# Altium footprint library optocoupler.PCBLIB: 38 footprints (part 2 of 3)
Each footprint in its own frame and in the unit in brackets; x right, y up, seen from the top. Pads: shape width x height; smd on the part's side, far side on the other; paste and mask are expansions set on the pad; w line width, h text height; cw(c..) or ccw(c..) is an arc to the next point about the centre after c.
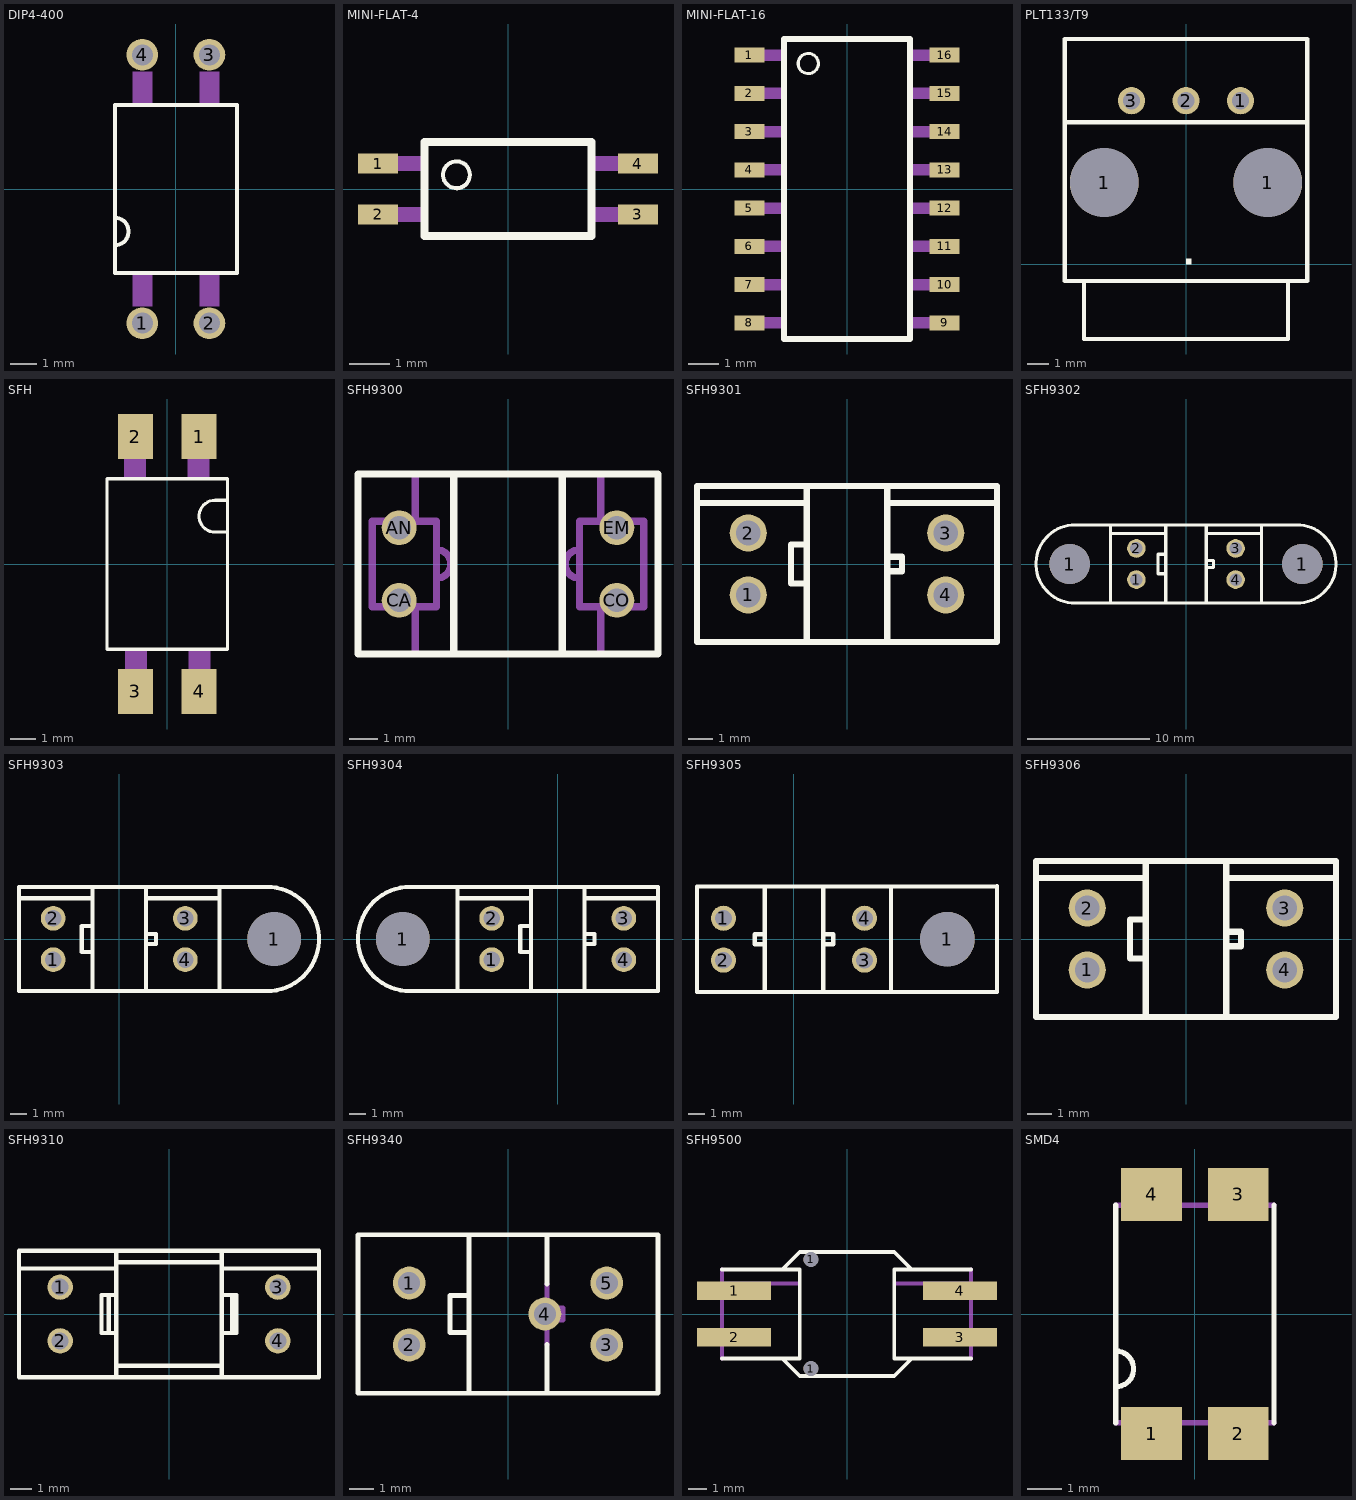
[diagram p1: the footprints below, top view; thin cyan lines are the x and y axes]

## DIP4-400 [mil]
pads (4):
  round 47.25 hole 31.5: 1(-50,-200) 2(50,-200) 3(50,200) 4(-50,200)
Top Overlay:
  lines w6: -91.14,-83.86 ccw(c-91.14,-63.29) -91.14,-42.72 ; -91.14,-83.86 -91.14,-42.72 ; -91.14,-83.86 -91.14,-125.2 91.14,-125.2 91.14,125.2 -91.14,125.2 -91.14,-42.72
Mechanical 4:
  region: -35,175 -65,175 -65,125.98 -35,125.98
  region: 65,175 35,175 35,125.98 65,125.98
  rectangle: 35,-175 65,-125.98
  rectangle: -65,-175 -35,-125.98

## MINI-FLAT-4 [mm]
pads (4):
  rect 1x0.5 smd: 1(-3.24,0.635) 2(-3.24,-0.635) 3(3.24,-0.635) 4(3.24,0.635)
Top Overlay:
  circle w0.102: c-1.285,0.354 r0.335
  lines w0.203: -2.085,-1.168 -2.085,1.168 2.085,1.168 2.085,-1.168 -2.085,-1.168
Mechanical 4:
  region: 3.471,0.826 2.15,0.826 2.15,0.445 3.471,0.444
  region: 3.471,-0.445 2.15,-0.444 2.15,-0.826 3.471,-0.826
  rectangle: -3.471,-0.826 -2.15,-0.445
  rectangle: -3.471,0.445 -2.15,0.826

## MINI-FLAT-16 [mm]
pads (16):
  rect 1x0.5 smd: 1(-3.24,4.445) 2(-3.24,3.175) 3(-3.24,1.905) 4(-3.24,0.635) 5(-3.24,-0.635) 6(-3.24,-1.905) 7(-3.24,-3.175) 8(-3.24,-4.445) 9(3.24,-4.445) 10(3.24,-3.175) 11(3.24,-1.905) 12(3.24,-0.635) 13(3.24,0.635) 14(3.24,1.905) 15(3.24,3.175) 16(3.24,4.445)
Top Overlay:
  circle w0.102: c-1.285,4.164 r0.335
  lines w0.203: -2.085,-4.978 -2.085,4.978 2.085,4.978 2.085,-4.978 -2.085,-4.978
Mechanical 4:
  rectangle: 2.15,4.255 3.471,4.635
  rectangle: 2.15,2.984 3.471,3.365
  rectangle: 2.15,1.714 3.471,2.095
  rectangle: 2.15,0.445 3.471,0.826
  region: 3.471,-0.445 2.15,-0.444 2.15,-0.826 3.471,-0.826
  region: 3.471,-1.714 2.15,-1.714 2.15,-2.095 3.471,-2.095
  region: 3.471,-2.984 2.15,-2.984 2.15,-3.365 3.471,-3.365
  region: 3.471,-4.255 2.15,-4.255 2.15,-4.635 3.471,-4.635
  region: -2.15,-4.255 -3.471,-4.255 -3.471,-4.635 -2.15,-4.635
  region: -2.15,-2.984 -3.471,-2.984 -3.471,-3.365 -2.15,-3.365
  region: -2.15,-1.714 -3.471,-1.714 -3.471,-2.095 -2.15,-2.095
  region: -2.15,-0.445 -3.471,-0.444 -3.471,-0.826 -2.15,-0.826
  rectangle: -3.471,0.445 -2.15,0.826
  rectangle: -3.471,1.714 -2.15,2.095
  rectangle: -3.471,2.984 -2.15,3.365
  rectangle: -3.471,4.255 -2.15,4.635

## PLT133/T9 [mil]
pads (5):
  round 125.98 hole 125.98: 1(-150,150) 1(150,150)
  round 50 hole 31.5: 1(100,300) 2(0,300) 3(-100,300)
Top Overlay:
  region: 0,0 10,0 10,10 0,10
  lines w8: -187.01,-34.65 -187.01,-137.01 187.01,-137.01 187.01,-34.65 ; -222.44,260.63 222.44,260.63 ; -222.44,260.63 -222.44,413.19 222.44,413.19 222.44,260.63 ; -222.44,260.63 -222.44,-30.71 222.44,-30.71 222.44,260.63

## SFH [mil]
pads (4):
  rect 55.12x70.87 smd: 1(50,200) 2(-50,200) 3(-50,-200) 4(50,-200)
Top Overlay:
  lines w5: 92.13,50 75,50 cw(c75,75) 75,100 92.13,100 ; -94.49,-133.86 -94.49,133.86 94.49,133.86 94.49,-133.86 -94.49,-133.86
Mechanical 4:
  region: 67.91,-136.81 33.46,-136.81 33.46,-221.46 67.91,-221.46
  region: -32.09,-136.81 -66.54,-136.81 -66.54,-221.46 -32.09,-221.46
  rectangle: 32.09,136.81 66.54,221.46
  rectangle: -67.91,136.81 -33.46,221.46

## SFH9300 [mil]
pads (4):
  round 48 hole 32: AN(-150,50) CA(-150,-50) CO(150,-50) EM(150,50)
Top Overlay:
  lines w10: -74.8,-122.05 -74.8,120.08 ; 74.8,-122.05 74.8,122.05 ; -206.69,-124.02 206.69,-124.02 206.69,124.02 -206.69,124.02 -206.69,-124.02
Mechanical 4:
  lines w10: -127.95,-118.11 -127.95,-59.06 ; -127.95,118.11 -127.95,59.06 ; -98.43,-19.69 ccw(c-98.43,0) -98.43,19.69 ; 98.43,-19.69 cw(c98.43,0) 98.43,19.69 ; 127.95,-118.11 127.95,-59.06 ; 127.95,118.11 127.95,59.06 ; -127.95,-59.06 -98.43,-59.06 -98.43,59.06 -127.95,59.06 ; -127.95,-59.06 -187.01,-59.06 -187.01,59.06 -127.95,59.06 ; 127.95,-59.06 98.43,-59.06 98.43,59.06 127.95,59.06 ; 127.95,-59.06 187.01,-59.06 187.01,59.06 127.95,59.06

## SFH9301 [mil]
pads (4):
  round 60 hole 40: 1(-159.45,-50) 2(-159.45,50) 3(159.45,50) 4(159.45,-50)
Top Overlay:
  lines w10: -238.19,98.43 -68.9,98.43 ; -70.87,31.5 -90.55,31.5 -90.55,-31.5 -68.9,-31.5 ; -64.96,-122.05 -64.96,122.05 ; 64.96,-122.05 64.96,122.05 ; 68.9,-11.81 88.58,-11.81 88.58,11.81 68.9,11.81 ; 68.9,98.43 238.19,98.43 ; -242.13,-125.98 242.13,-125.98 242.13,125.98 -242.13,125.98 -242.13,-125.98

## SFH9302 [mil]
pads (6):
  round 129.92 hole 129.92: 1(-374.02,0) 1(374.02,0)
  round 60 hole 40: 1(-159.45,-50) 2(-159.45,50) 3(159.45,50) 4(159.45,-50)
Top Overlay:
  lines w10: -238.19,98.43 -68.9,98.43 ; -70.87,31.5 -90.55,31.5 -90.55,-31.5 -68.9,-31.5 ; -64.96,-122.05 -64.96,122.05 ; 64.96,-122.05 64.96,122.05 ; 68.9,-11.81 88.58,-11.81 88.58,11.81 68.9,11.81 ; 68.9,98.43 238.19,98.43 ; -242.13,-125.98 -356.3,-125.98 cw(c-356.3,0) -356.3,125.98 -242.13,125.98 ; -242.13,-125.98 242.13,-125.98 ; -242.13,-125.98 -242.13,125.98 ; -242.13,125.98 242.13,125.98 ; 242.13,-125.98 356.3,-125.98 ccw(c356.3,0) 356.3,125.98 242.13,125.98 ; 242.13,-125.98 242.13,125.98

## SFH9303 [mil]
pads (5):
  round 60 hole 40: 1(-159.45,-50) 2(-159.45,50) 3(159.45,50) 4(159.45,-50)
  round 129.92 hole 129.92: 1(374.02,0)
Top Overlay:
  lines w10: -238.19,98.43 -68.9,98.43 ; -70.87,31.5 -90.55,31.5 -90.55,-31.5 -68.9,-31.5 ; -64.96,-122.05 -64.96,122.05 ; 64.96,-122.05 64.96,122.05 ; 68.9,-11.81 88.58,-11.81 88.58,11.81 68.9,11.81 ; 68.9,98.43 238.19,98.43 ; 242.13,-125.98 356.3,-125.98 ccw(c356.3,0) 356.3,125.98 242.13,125.98 ; 242.13,-125.98 242.13,125.98 ; 242.13,-125.98 -242.13,-125.98 -242.13,125.98 242.13,125.98

## SFH9304 [mil]
pads (5):
  round 129.92 hole 129.92: 1(-374.02,0)
  round 60 hole 40: 1(-159.45,-50) 2(-159.45,50) 3(159.45,50) 4(159.45,-50)
Top Overlay:
  lines w10: -238.19,98.43 -68.9,98.43 ; -70.87,31.5 -90.55,31.5 -90.55,-31.5 -68.9,-31.5 ; -64.96,-122.05 -64.96,122.05 ; 64.96,-122.05 64.96,122.05 ; 68.9,-11.81 88.58,-11.81 88.58,11.81 68.9,11.81 ; 68.9,98.43 238.19,98.43 ; -242.13,-125.98 -356.3,-125.98 cw(c-356.3,0) -356.3,125.98 -242.13,125.98 ; -242.13,-125.98 242.13,-125.98 242.13,125.98 -242.13,125.98 ; -242.13,-125.98 -242.13,125.98

## SFH9305 [mil]
pads (5):
  round 60 hole 40: 1(-168.31,50) 2(-168.31,-50) 3(168.31,-50) 4(168.31,50)
  round 129.92 hole 129.92: 1(366.14,0)
Top Overlay:
  lines w10: -73.82,-11.81 -93.5,-11.81 -93.5,11.81 -73.82,11.81 ; -69.88,-122.05 -69.88,122.05 ; 69.88,-122.05 69.88,122.05 ; 73.82,-11.81 93.5,-11.81 93.5,11.81 73.82,11.81 ; 483.27,-125.98 232.28,-125.98 ; 484.25,126.97 484.25,125.98 ; 231.3,-125.98 232.28,-125.98 ; 231.3,-125.98 231.3,125.98 ; 231.3,-125.98 -231.3,-125.98 -231.3,125.98 231.3,125.98 ; 231.3,125.98 484.25,125.98 ; 232.28,-125.98 484.25,-125.98 484.25,125.98

## SFH9306 [mil]
pads (4):
  round 60 hole 40: 1(-159.45,-50) 2(-159.45,50) 3(159.45,50) 4(159.45,-50)
Top Overlay:
  lines w10: -238.19,98.43 -68.9,98.43 ; -70.87,31.5 -90.55,31.5 -90.55,-31.5 -68.9,-31.5 ; -64.96,-122.05 -64.96,122.05 ; 64.96,-122.05 64.96,122.05 ; 68.9,-11.81 88.58,-11.81 88.58,11.81 68.9,11.81 ; 68.9,98.43 238.19,98.43 ; -242.13,-125.98 242.13,-125.98 242.13,125.98 -242.13,125.98 -242.13,-125.98

## SFH9310 [mil]
pads (4):
  round 47.25 hole 31.5: 1(-202.76,50) 2(-202.76,-50) 3(202.76,50) 4(202.76,-50)
Top Overlay:
  lines w8: -277.56,84.65 -100.39,84.65 ; -112.2,-31.5 -112.2,31.5 ; -102.36,-35.43 -125.98,-35.43 -125.98,35.43 -102.36,35.43 ; -98.43,-114.17 -98.43,116.14 ; -94.49,-96.46 94.49,-96.46 ; -94.49,96.46 94.49,96.46 ; 98.43,-114.17 98.43,116.14 ; 100.39,84.65 275.59,84.65 ; 102.36,-35.43 125.98,-35.43 125.98,35.43 102.36,35.43 ; 118.11,-31.5 118.11,31.5 ; -279.53,-118.11 -279.53,118.11 279.53,118.11 279.53,-118.11 -279.53,-118.11

## SFH9340 [mil]
pads (5):
  round 53.15 hole 35.43: 1(-159.45,50) 2(-159.45,-50) 3(159.45,-50) 4(59.45,0) 5(159.45,50)
Top Overlay:
  lines w8: -63.98,-29.53 -93.5,-29.53 -93.5,29.53 -63.98,29.53 ; -62.99,-124.02 -62.99,124.02 ; 62.99,-124.02 62.99,-49.21 ; 62.99,48.23 62.99,124.02 ; -242.13,-127.95 -242.13,127.95 242.13,127.95 242.13,-127.95 -242.13,-127.95
Mechanical 4:
  lines w8: 62.99,-49.21 62.99,48.23 ; 63.98,-9.84 88.58,-9.84 88.58,9.84 63.98,9.84

## SFH9500 [mm]
pads (6):
  rect 4x1 smd: 1(-6.1,1.25) 2(-6.1,-1.25) 3(6.1,-1.25) 4(6.1,1.25)
  round 0.8 hole 0.8: 1(-1.95,-2.95) 1(-1.95,2.95)
Top Overlay:
  lines w0.203: -6.75,-2.4 -3.5,-2.4 ; -6.75,2.4 -3.5,2.4 ; 6.7,-2.4 3.5,-2.4 ; 6.7,2.4 3.5,2.4 ; -3.5,-2.4 -2.55,-2.4 -2.55,2.4 -3.5,2.4 ; -3.5,-2.4 -2.55,-3.35 2.55,-3.35 3.5,-2.4 ; -3.5,2.4 -2.55,3.35 2.55,3.35 3.5,2.4 ; 3.5,-2.4 2.55,-2.4 2.55,2.4 3.5,2.4
Mechanical 4:
  rectangle: 5,1.015 7.8,1.515
  rectangle: 5,-1.525 7.8,-1.025
  rectangle: -7.8,-1.515 -5,-1.015
  rectangle: -7.8,1.025 -5,1.525
  lines w0.203: -6.75,-2.4 -6.75,1.65 ; -6.75,2.4 -6.75,1.65 ; -2.6,1.65 -6.75,1.65 ; 2.65,1.65 6.7,1.65 ; 6.7,-2.4 6.7,1.65 ; 6.7,2.4 6.7,1.65

## SMD4 [mil]
pads (4):
  rect 70.08x61.02 smd: 1(-50,-137.8) 2(50,-137.8) 3(50,137.8) 4(-50,137.8)
Top Overlay:
  lines w6: -91.14,-125.2 -91.14,-83.86 ; -91.14,125.2 -91.14,-42.72 ; 91.14,-125.2 91.14,125.2 ; -91.14,-83.86 ccw(c-91.14,-63.29) -91.14,-42.72 ; -91.14,-83.86 -91.14,-42.72
Mechanical 4:
  region: -35,154.53 -65,154.53 -65,125.98 -35,125.98
  region: 65,154.53 35,154.53 35,125.98 65,125.98
  rectangle: 35,-154.53 65,-125.98
  rectangle: -65,-154.53 -35,-125.98
  lines w6: -91.14,-125.2 91.14,-125.2 ; -91.14,125.2 91.14,125.2